# Altium schematic symbol library TLP183GRTPLE.SchLib: 2 symbols
Pins are listed as number, name and electrical type; pins without a type are passive.

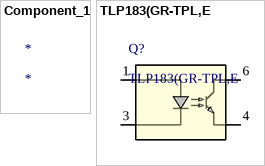
[diagram p0: symbols Component_1 to TLP183(GR-TPL,E]

## Component_1
designator *
footprint 4pin SO6_TOS

## TLP183(GR-TPL,E
designator Q?
No Description Available; Vendor: Toshiba; Built_By: EMA_UL_Team; SourceLibrary: Toshiba_2019-12-10; Type: DEV; Number_devices_in_Package: 1; Manufacturer_Part_Number: TLP183(GR-TPL,E; Copyright: Copyright (C) 2018 Accelerated Designs. All rights reserved; RefDes: RefDes; Source_Package: TLP183
footprint 4pin SO6_TOS
pins: 1, 3, 4, 6